# EAGLE library part LTC1174 (library IC)
Linear Technology LTC1174(-3.3/-5) High Efficiency Step-Down and Inverting DC/DC Converter
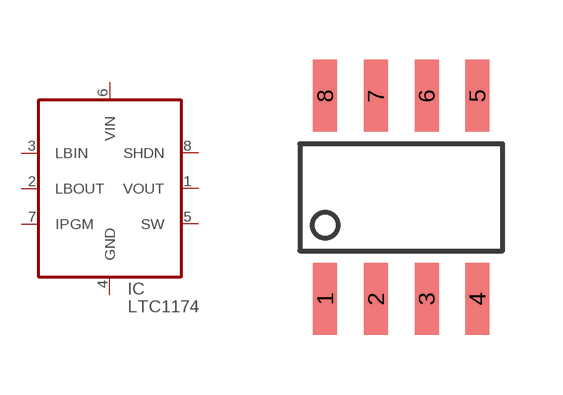
[diagram p133: symbol with the pads of SOIC8; footprint SOIC8]

Designator prefix IC

## LTC1174  [SOIC8]
1  VOUT
2  LBOUT
3  LBIN
4  GND  pwr
5  SW
6  VIN  pwr
7  IPGM
8  SHDN

## Footprint SOIC8 (pad centres in mm)
8 pin SOIC 150-mil package
smd 0.6 x 1.8: 1 -1.905,-2.54; 2 -0.635,-2.54; 3 0.635,-2.54; 4 1.905,-2.54; 5 1.905,2.54; 6 0.635,2.54; 7 -0.635,2.54; 8 -1.905,2.54